# Altium schematic symbol library Schlib1.SchLib: 5 symbols
Pins are listed as number, name and electrical type; pins without a type are passive.

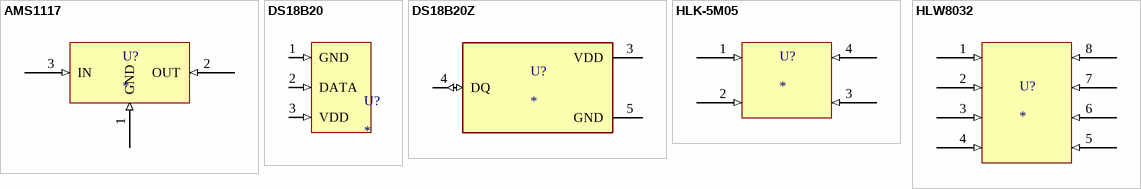
[diagram p0: symbols AMS1117 to HLW8032]

## AMS1117
designator U?
pins: 1 GND (in), 2 OUT (in), 3 IN (in)

## DS18B20
designator U?
pins: 1 GND (in), 2 DATA (in), 3 VDD (in)

## DS18B20Z
designator U?
Temperature Sensor Digital, Local -55Â°C ~ 125Â°C 12 b 8-SOIC; MP: DS18B20Z+; MF: Maxim Integrated; Availability: Unavailable; SnapEDA_Link: https://www.snapeda.com/parts/DS18B20Z%2B/Maxim%20Integrated/view-part/109391/?ref=snap; Value: *; Package: SOIC-8 Maxim; Price: None
footprint SOIC127P600X175-8N
pins: 3 VDD (power), 4 DQ (io), 5 GND (power)

## HLK-5M05
designator U?
pins: 1 (in), 2 (in), 3 (in), 4 (in)

## HLW8032
designator U?
pins: 1 (in), 2 (in), 3 (in), 4 (in), 5 (in), 6 (in), 7 (in), 8 (in)